# Altium footprint library PcbLib1.PcbLib: 13 footprints
Each footprint in its own frame and in the unit in brackets; x right, y up, seen from the top. Pads: shape width x height; smd on the part's side, far side on the other; paste and mask are expansions set on the pad; w line width, h text height; cw(c..) or ccw(c..) is an arc to the next point about the centre after c.
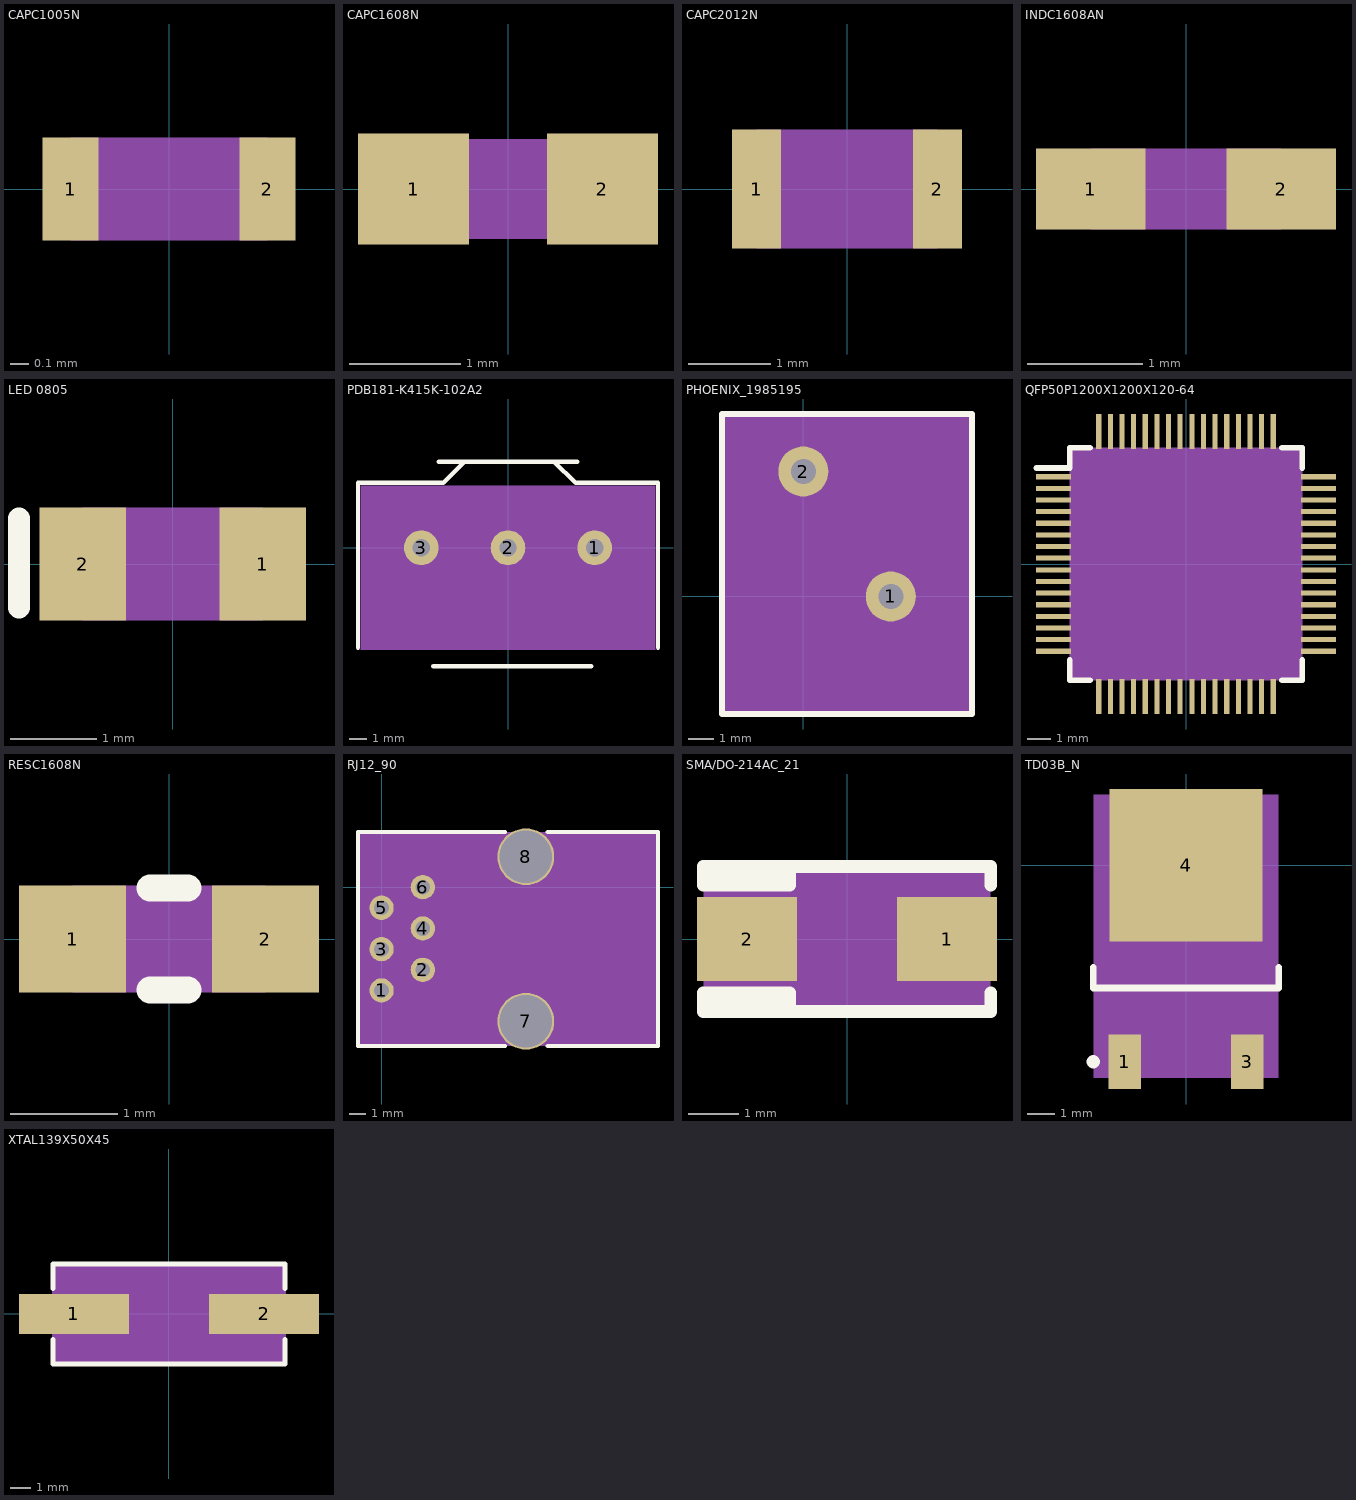
[diagram p0: the footprints below, top view; thin cyan lines are the x and y axes]

## CAPC1005N [mm]
height 0.6
pads (2):
  rect 0.3x0.55 smd: 1(-0.525,0) 2(0.525,0)
Mechanical 1:
  rectangle: -0.525,-0.275 0.525,0.275

## CAPC1608N [mm]
height 0.9
pads (2):
  rect 1x1 smd: 1(-0.85,0) 2(0.85,0)
Mechanical 1:
  rectangle: -0.85,-0.45 0.85,0.45

## CAPC2012N [mm]
height 0.7
pads (2):
  rect 0.6x1.45 smd: 1(-1.1,0) 2(1.1,0)
Mechanical 1:
  rectangle: -1.1,-0.725 1.1,0.725

## INDC1608AN [mm]
pads (2):
  rect 0.95x0.7 smd mask+0.102: 1(-0.825,0)
  rect 0.95x0.7 smd: 2(0.825,0)
Mechanical 1:
  rectangle: -0.825,-0.35 0.825,0.35

## LED 0805 [mm]
height 0.78
pads (3):
  rect 1x1.3 smd: 1(1.04,0) 2(-1.04,0)
  rect 2.08x1.3 on Mech1: ""(0,0)
Top Overlay:
  lines w0.254: -1.775,-0.505 -1.775,0.525

## PDB181-K415K-102A2 [mm]
pads (3):
  round 2 hole 1: 1(5,0) 2(0,0) 3(-5,0)
Top Overlay:
  lines w0.254: -8.65,-5.775 -8.65,3.75 -3.725,3.75 -2.525,4.95 ; -4.3,-6.825 4.8,-6.825 ; -4,4.95 4,4.95 ; 2.65,4.95 3.898,3.75 8.65,3.75 8.65,-5.775
Mechanical 1:
  region: 8.5,3.6 -8.5,3.6 -8.5,-5.9 8.5,-5.9
Mechanical 2:
  lines w1.25: -5.25,0 ccw(c-5,0) -5.248,0.03 ; -0.25,0 ccw(c0,0) -0.248,0.03 ; 4.75,0 ccw(c5,0) 4.752,0.03

## PHOENIX_1985195 [mm]
pads (2):
  round 2 hole 1: 1(3.5,0) 2(0,5)
Top Overlay:
  lines w0.254: -3.25,-4.7 -3.25,7.3 6.75,7.3 6.75,-4.7 -3.25,-4.7
Mechanical 1:
  rectangle: -3.25,-4.7 6.75,7.3
Mechanical 2:
  rectangle: 2.5,-1 4.5,1
  lines w1.25: 0.248,4.97 cw(c0,5) 0.25,5

## QFP50P1200X1200X120-64 [mm]
height 1.2
pads (65):
  rect 1.5x0.22 smd: 1(-5.7,3.75) 2(-5.7,3.25) 3(-5.7,2.75) 4(-5.7,2.25) 5(-5.7,1.75) 6(-5.7,1.25) 7(-5.7,0.75) 8(-5.7,0.25) 9(-5.7,-0.25) 10(-5.7,-0.75) 11(-5.7,-1.25) 12(-5.7,-1.75) 13(-5.7,-2.25) 14(-5.7,-2.75) 15(-5.7,-3.25) 16(-5.7,-3.75) 33(5.7,-3.75) 34(5.7,-3.25) 35(5.7,-2.75) 36(5.7,-2.25) 37(5.7,-1.75) 38(5.7,-1.25) 39(5.7,-0.75) 40(5.7,-0.25) 41(5.7,0.25) 42(5.7,0.75) 43(5.7,1.25) 44(5.7,1.75) 45(5.7,2.25) 46(5.7,2.75) 47(5.7,3.25) 48(5.7,3.75)
  rect 0.22x1.5 smd: 17(-3.75,-5.7) 18(-3.25,-5.7) 19(-2.75,-5.7) 20(-2.25,-5.7) 21(-1.75,-5.7) 22(-1.25,-5.7) 23(-0.75,-5.7) 24(-0.25,-5.7) 25(0.25,-5.7) 26(0.75,-5.7) 27(1.25,-5.7) 28(1.75,-5.7) 29(2.25,-5.7) 30(2.75,-5.7) 31(3.25,-5.7) 32(3.75,-5.7) 49(3.75,5.7) 50(3.25,5.7) 51(2.75,5.7) 52(2.25,5.7) 53(1.75,5.7) 54(1.25,5.7) 55(0.75,5.7) 56(0.25,5.7) 57(-0.25,5.7) 58(-0.75,5.7) 59(-1.25,5.7) 60(-1.75,5.7) 61(-2.25,5.7) 62(-2.75,5.7) 63(-3.25,5.7) 64(-3.75,5.7)
  rect 10x10 on Mech1: ""(0,0)
Top Overlay:
  lines w0.254: -6.425,4.125 -5,4.125 -5,5 -4.125,5 ; -5,-4.125 -5,-5 -4.125,-5 ; 4.125,-5 5,-5 5,-4.125 ; 4.125,5 5,5 5,4.125

## RESC1608N [mm]
height 0.5
pads (2):
  rect 1x1 smd: 1(-0.9,0) 2(0.9,0)
Top Overlay:
  lines w0.254: -0.175,-0.475 0.175,-0.475 ; -0.175,0.475 0.175,0.475
Mechanical 1:
  rectangle: -0.9,-0.5 0.9,0.5

## RJ12_90 [mm]
pads (8):
  round 1.5 hole 0.9: 1(0,-6.375) 2(2.55,-5.1) 3(0,-3.825) 4(2.55,-2.55) 5(0,-1.275) 6(2.55,0)
  round 3.5 hole 3.25: 7(8.9,-8.275) 8(8.9,1.875)
Top Overlay:
  lines w0.254: 7.625,-9.8 -1.45,-9.8 -1.45,3.4 7.625,3.4 ; 10.25,-9.8 17.05,-9.8 17.05,3.4 10.25,3.4
Mechanical 1:
  rectangle: -1.45,-9.8 17.05,3.4
Mechanical 2:
  lines w1.25: 0.248,-6.405 cw(c0,-6.375) 0.25,-6.375 ; 0.248,-3.855 cw(c0,-3.825) 0.25,-3.825 ; 0.248,-1.305 cw(c0,-1.275) 0.25,-1.275 ; 2.798,-5.13 cw(c2.55,-5.1) 2.8,-5.1 ; 2.798,-2.58 cw(c2.55,-2.55) 2.8,-2.55 ; 2.798,-0.03 cw(c2.55,0) 2.8,0

## SMA/DO-214AC_21 [mm]
height 3
pads (3):
  rect 2x1.68 smd: 1(2,0) 2(-2,0)
  rect 5.74x2.9 on Mech1: ""(0,0)
Top Overlay:
  lines w0.254: -2.875,-1.262 -1.15,-1.262 ; -2.875,1.262 -1.15,1.262 ; -1.15,-1.45 -1.15,-1.075 -2.875,-1.075 -2.875,-1.45 2.875,-1.45 2.875,-1.075 ; -1.15,1.45 -1.15,1.075 -2.875,1.075 -2.875,1.45 2.875,1.45 2.875,1.075

## TD03B_N [mm]
height 2.4
pads (5):
  rect 1.2x2 smd: 1(-2.25,-7.2) 3(2.25,-7.2)
  rect 5.6x5.6 smd: 4(0,0)
  round 0.5 on Top Overlay: ""(-3.4,-7.2)
  rect 6.8x10.4 on Mech1: ""(0,-2.6)
Top Overlay:
  lines w0.254: -3.4,-3.75 -3.4,-4.5 3.4,-4.5 3.4,-3.75

## XTAL139X50X45 [mm]
height 4.5
pads (2):
  rect 5.5x2 smd: 1(-4.75,0) 2(4.75,0)
Top Overlay:
  lines w0.254: -5.8,-1.275 -5.8,-2.5 5.8,-2.5 5.8,-1.275 ; -5.8,1.275 -5.8,2.5 5.8,2.5 5.8,1.275
Mechanical 1:
  rectangle: -5.85,-2.5 5.85,2.5